# EAGLE library part DG306-5.0-10P (library _mtvl.connectors)
DG306-5.0-10P Screw Terminal
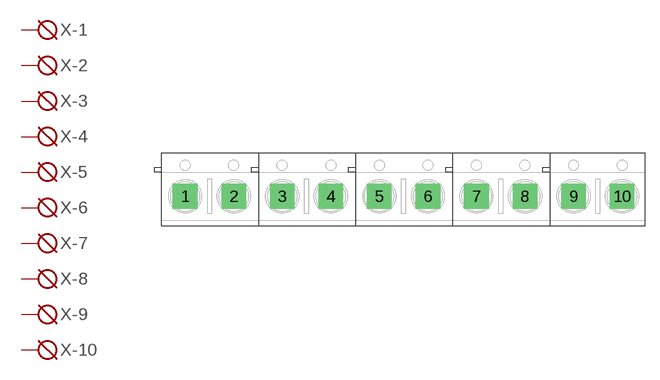
[diagram p28: symbol with the pads of DG306-5.0-10P; footprint DG306-5.0-10P]

Designator prefix X; gates -1=KL -2=KL -3=KL -4=KL -5=KL -6=KL -7=KL -8=KL -9=KL -10=KL

## DG306-5.0-10P  [DG306-5.0-10P]
1  -1:KL  pas
2  -2:KL  pas
3  -3:KL  pas
4  -4:KL  pas
5  -5:KL  pas
6  -6:KL  pas
7  -7:KL  pas
8  -8:KL  pas
9  -9:KL  pas
10  -10:KL  pas

## Footprint DG306-5.0-10P (pad centres in mm)
DG306 Series Screw Terminal 10 PIN
drill 1.1 pad 2.54 square: 1 -22.5,0; 2 -17.5,0; 3 -12.5,0; 4 -7.5,0; 5 -2.5,0; 6 2.5,0; 7 7.5,0; 8 12.5,0; 9 17.5,0; 10 22.5,0